# Altium footprint library 2021-01-14_23-23-38.PcbLib: 1 footprints
Each footprint in its own frame and in the unit in brackets; x right, y up, seen from the top. Pads: shape width x height; smd on the part's side, far side on the other; paste and mask are expansions set on the pad; w line width, h text height; cw(c..) or ccw(c..) is an arc to the next point about the centre after c.
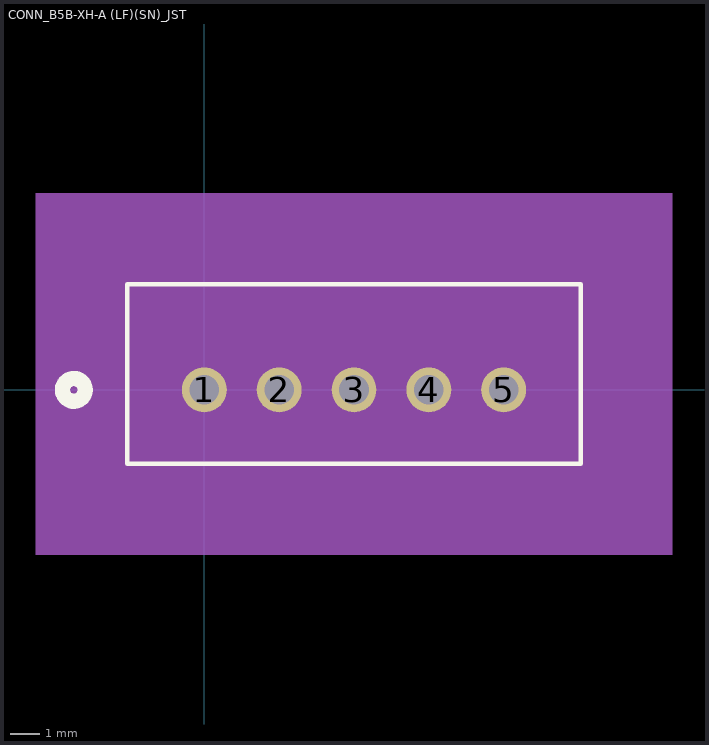
[diagram p0: the footprint, top view; thin cyan lines are the x and y axes]

## CONN_B5B-XH-A (LF)(SN)_JST [mil]
pads (5):
  round 59 hole 39 mask+0: 1(0,0) 2(98.43,0) 3(196.86,0) 4(295.29,0) 5(393.72,0)
Top Overlay:
  circle w20: c-171.64,0 r15
  lines w6: -101.64,-97.14 495.36,-97.14 495.36,138.86 -101.64,138.86 -101.64,-97.14
Bottom Overlay:
  circle w20: c-171.64,0 r15
Mechanical 5:
  region: -221.64,258.86 615.36,258.86 615.36,-217.14 -221.64,-217.14
Mechanical 13:
  circle w20: c0,-75 r15
  lines w1: -96.64,-92.14 490.36,-92.14 490.36,133.86 -96.64,133.86 -96.64,-92.14
Mechanical 15:
  region: 500.36,143.86 -106.64,143.86 -106.64,-102.14 500.36,-102.14
  lines w6: -106.64,-102.14 -106.64,143.86 500.36,143.86 500.36,-102.14 -106.64,-102.14
3D body: height 10, standoff 0, extent 0,0 10,10